# Altium schematic symbol library 信标原理图.SCHLIB: 1 symbol
Pins are listed as number, name and electrical type; pins without a type are passive.

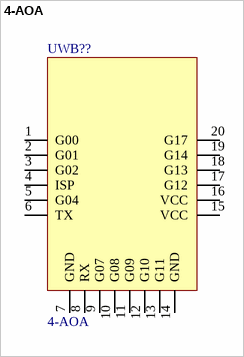
[diagram p0: symbol 4-AOA]

## 4-AOA
designator UWB??
pins: 1 G00, 2 G01, 3 G02, 4 ISP, 5 G04, 6 TX, 7 GND, 8 RX, 9 G07, 10 G08, 11 G09, 12 G10, 13 G11, 14 GND, 15 VCC, 16 VCC, 17 G12, 18 G13, 19 G14, 20 G17